# Altium footprint library Osciladores.PcbLib: 1 footprints
Each footprint in its own frame and in the unit in brackets; x right, y up, seen from the top. Pads: shape width x height; smd on the part's side, far side on the other; paste and mask are expansions set on the pad; w line width, h text height; cw(c..) or ccw(c..) is an arc to the next point about the centre after c.
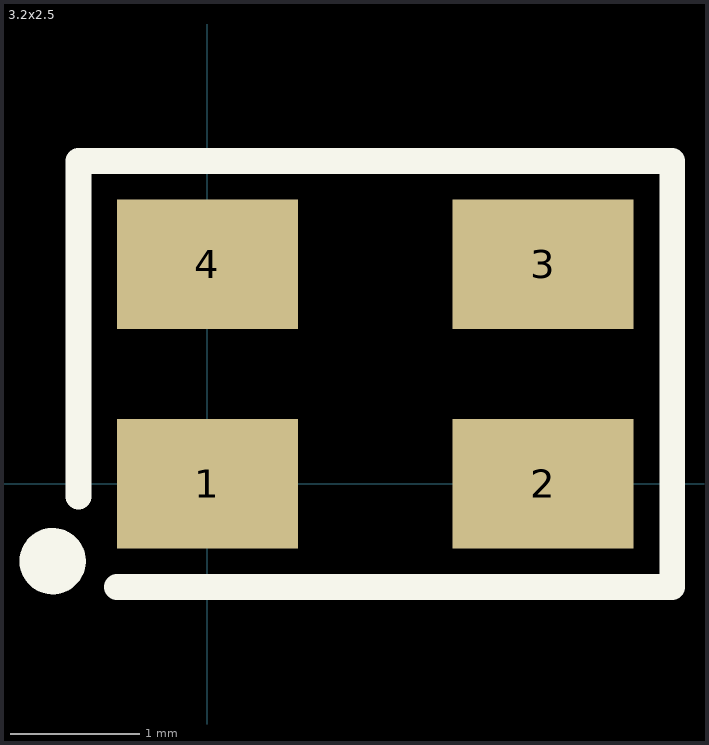
[diagram p0: the footprint, top view; thin cyan lines are the x and y axes]

## 3.2x2.5 [mm]
pads (4):
  rect 1.4x1 smd: 1(0,0) 2(2.6,0) 3(2.6,1.7) 4(0,1.7)
Top Overlay:
  circle w0.254: c-1.2,-0.6 r0.13
  lines w0.2: -1,-0.1 -1,2.5 3.6,2.5 3.6,-0.8 -0.7,-0.8
3D body "Oscilador - 3.4x2.7.STEP": height 0.82, standoff 0, extent -0.4,-0.35 2.8,2.15